# Altium footprint library TO3A.PcbLib: 1 footprints
Each footprint in its own frame and in the unit in brackets; x right, y up, seen from the top. Pads: shape width x height; smd on the part's side, far side on the other; paste and mask are expansions set on the pad; w line width, h text height; cw(c..) or ccw(c..) is an arc to the next point about the centre after c.
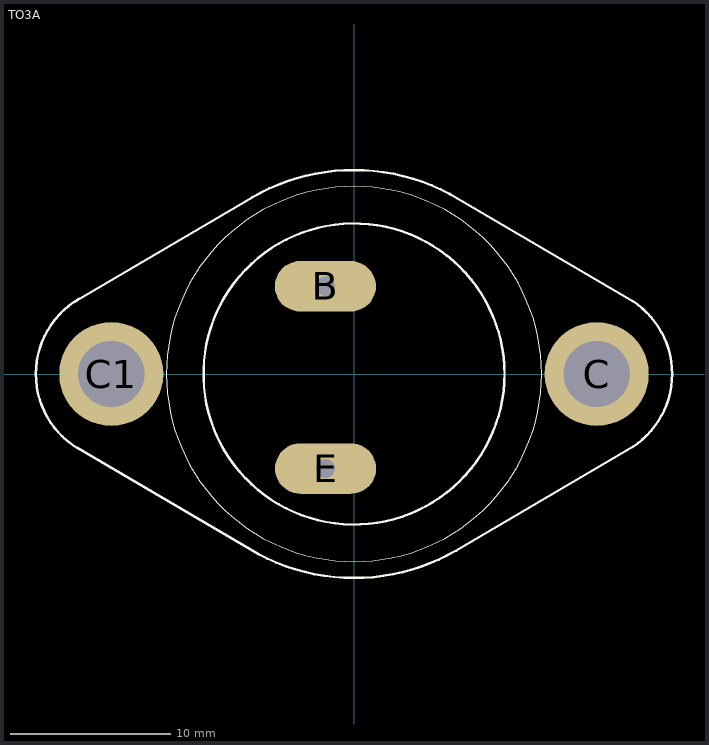
[diagram p0: the footprint, top view; thin cyan lines are the x and y axes]

## TO3A [mil]
pads (4):
  oval 248x124 hole 47: B(-70,215) E(-69.77,-231.97)
  round 255 hole 162: C(595,0) C1(-595,0)
Top Overlay:
  circle w6: c0,0 r369
  circle w2: c0,0 r460
  lines w6: -680,180 -250,433 cw(c0,0) 0,500 cw(c0,0) 234.74,441.47 ; -679,-181 -234,-442 ; -676.7,-182.58 cw(c-567,0) -780,0 cw(c-567,0) -673.5,184.46 ; -234.74,-441.47 ccw(c0,0) 0,-500 ccw(c0,0) 250,-433.01 ; 235,441 684,178 ; 251,-433 684,-178 ; 683.01,-178.64 ccw(c567,0) 780,0 ccw(c567,0) 683.01,178.64
Mechanical 13:
  circle w6: c595,0 r85
  circle w6: c-595,0 r85
3D body "step_temp.STEP": height 335, standoff -480, extent -775,-525 775,525